# EAGLE library part GKHEAD_K_SMD (library 029000100  -  gKEagleLibrary)
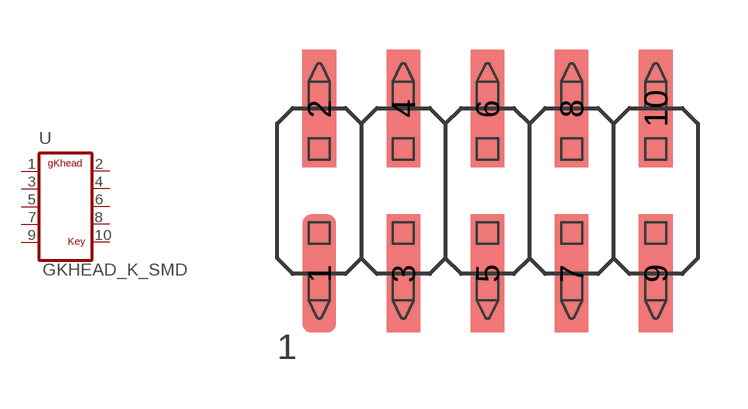
[diagram p8: symbol with the pads of HEAD10SMD; footprint HEAD10SMD]

Designator prefix -

## GKHEAD_K_SMD  [HEAD10SMD]
1  1  pas
2  2  pwr
3  3  pas
4  4  pas
5  5  pas
6  6  pas
7  7  pas
8  8  pas
9  9  pwr
10  KEY  nc

## Footprint HEAD10SMD (pad centres in mm)
smd 1.016 x 3.556: 1 -5.08,-2.488; 2 -5.08,2.488; 3 -2.54,-2.488; 4 -2.54,2.488; 5 0,-2.488; 6 0,2.488; 7 2.54,-2.488; 8 2.54,2.488; 9 5.08,-2.488; 10 5.08,2.488